# Altium footprint library BMS.PcbLib: 17 footprints (part 2 of 2)
Each footprint in its own frame and in the unit in brackets; x right, y up, seen from the top. Pads: shape width x height; smd on the part's side, far side on the other; paste and mask are expansions set on the pad; w line width, h text height; cw(c..) or ccw(c..) is an arc to the next point about the centre after c.
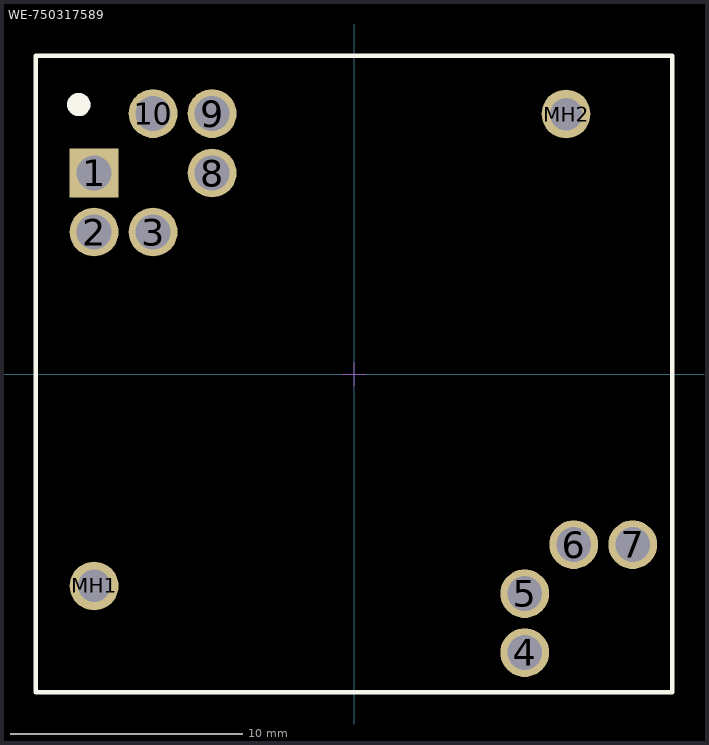
[diagram p1: the footprint, top view; thin cyan lines are the x and y axes]

## WE-750317589 [mm] "RM10 10-Terminal FLlyback Transformer"
height 20.5
pads (12):
  rect 2.1x2.1 hole 1.5: 1(-11.19,8.652)
  round 2.1 hole 1.5: 2(-11.19,6.112) 3(-8.65,6.112) 4(7.35,-11.998) 5(7.35,-9.458) 6(9.46,-7.348) 7(12,-7.348) 8(-6.11,8.652) 9(-6.11,11.212) 10(-8.65,11.212)
  round 2.1 hole 1.4: MH1(-11.19,-9.128) MH2(9.13,11.192)
Top Overlay:
  circle w0.5: c-11.85,11.6 r0.25
  lines w0.2: -13.7,-13.7 -13.7,13.7 13.7,13.7 13.7,-13.7 -13.7,-13.7
Mechanical 13:
  circle w0.5: c-11.85,11.6 r0.25
  lines w0.1: -13.65,-13.7 -13.65,13.7 13.7,13.7 13.7,-13.7 -13.65,-13.7
Mechanical 15:
  lines w0.05: -0.5,0 0.5,0 ; 0,-0.5 0,0.5 ; -13.7,-13.7 -13.7,13.7 13.7,13.7 13.7,-13.7 -13.7,-13.7
3D body "RM10_6920_0009.STEP": height 19.25, standoff -2.72, extent -13.602,-13.602 13.602,13.602